# EAGLE library part AK4490 (library cdp)
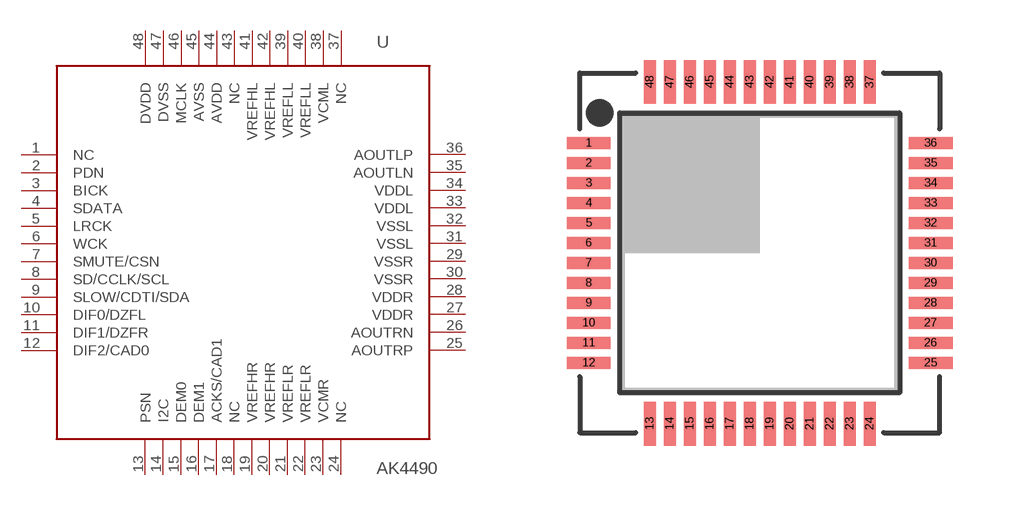
[diagram p42: symbol with the pads of P-QFP48-7X7MM; footprint P-QFP48-7X7MM]

Designator prefix U

## AK4490  [P-QFP48-7X7MM]
1  NC
2  PDN
3  BICK
4  SDATA
5  LRCK
6  WCK
7  SMUTE/CSN
8  SD/CCLK/SCL
9  SLOW/CDTI/SDA
10  DIF0/DZFL
11  DIF1/DZFR
12  DIF2/CAD0
13  PSN
14  I2C
15  DEM0
16  DEM1
17  ACKS/CAD1
18  NC
19  VREFHR
20  VREFHR
21  VREFLR
22  VREFLR
23  VCMR
24  NC
25  AOUTRP
26  AOUTRN
27  VDDR
28  VDDR
29  VSSR
30  VSSR
31  VSSL
32  VSSL
33  VDDL
34  VDDL
35  AOUTLN
36  AOUTLP
37  NC
38  VCML
39  VREFLL
40  VREFLL
41  VREFHL
42  VREFHL
43  NC
44  AVDD
45  AVSS
46  MCLK
47  DVSS
48  DVDD

## Footprint P-QFP48-7X7MM (pad centres in mm)
P-QFP48 7x7mm Auto generated by make-symbol-device-package-bsdl.ulp Rev. 35 Source: Datasheet <http://focus.ti.com/lit/ds/symlink/bq78pl114.pdf>
smd 1.1 x 0.3: 1 -4.275,2.75; 2 -4.275,2.25; 3 -4.275,1.75; 4 -4.275,1.25; 5 -4.275,0.75; 6 -4.275,0.25; 7 -4.275,-0.25; 8 -4.275,-0.75; 9 -4.275,-1.25; 10 -4.275,-1.75; 11 -4.275,-2.25; 12 -4.275,-2.75; 25 4.275,-2.75; 26 4.275,-2.25; 27 4.275,-1.75; 28 4.275,-1.25; 29 4.275,-0.75; 30 4.275,-0.25; 31 4.275,0.25; 32 4.275,0.75; 33 4.275,1.25; 34 4.275,1.75; 35 4.275,2.25; 36 4.275,2.75
smd 0.3 x 1.1: 13 -2.75,-4.275; 14 -2.25,-4.275; 15 -1.75,-4.275; 16 -1.25,-4.275; 17 -0.75,-4.275; 18 -0.25,-4.275; 19 0.25,-4.275; 20 0.75,-4.275; 21 1.25,-4.275; 22 1.75,-4.275; 23 2.25,-4.275; 24 2.75,-4.275; 37 2.75,4.275; 38 2.25,4.275; 39 1.75,4.275; 40 1.25,4.275; 41 0.75,4.275; 42 0.25,4.275; 43 -0.25,4.275; 44 -0.75,4.275; 45 -1.25,4.275; 46 -1.75,4.275; 47 -2.25,4.275; 48 -2.75,4.275